# EAGLE library part HJR1-2C-L-05VDC-S-ZY (library HJR1-2C-L-05VDC-S-ZY)
Surge strength 1500V FCC68 Source: Datasheet <https://www.schukat.com/schukat/pdf.nsf/index/B12244178CC2A902C125773F002B1B58/$file/2.pdf>
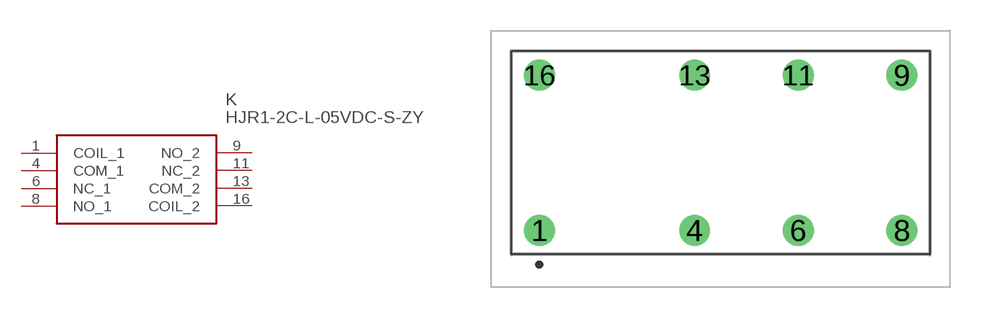
[diagram p0: symbol with the pads of HJR12CL05VDCSZY; footprint HJR12CL05VDCSZY]

Designator prefix K

## HJR1-2C-L-05VDC-S-ZY (Description: Surge strength 1500V FCC68; Height: 11mm; Manufacturer_Name: TIANBO Electronics; Manufacturer_Part_Number: HJR1-2C-L-05VDC-S-ZY)  [HJR12CL05VDCSZY]
1  COIL_1
4  COM_1
6  NC_1
8  NO_1
9  NO_2
11  NC_2
13  COM_2
16  COIL_2

## Footprint HJR12CL05VDCSZY (pad centres in mm)
HJR1-2C-L-05VDC-S-ZY
drill 1 pad 1.5: 1 -8.89,-3.51; 4 -1.27,-3.51; 6 3.81,-3.51; 8 8.89,-3.51; 9 8.89,4.11; 11 3.81,4.11; 13 -1.27,4.11; 16 -8.89,4.11